# Altium footprint library ZED-F9P.PcbLib: 1 footprints
Each footprint in its own frame and in the unit in brackets; x right, y up, seen from the top. Pads: shape width x height; smd on the part's side, far side on the other; paste and mask are expansions set on the pad; w line width, h text height; cw(c..) or ccw(c..) is an arc to the next point about the centre after c.
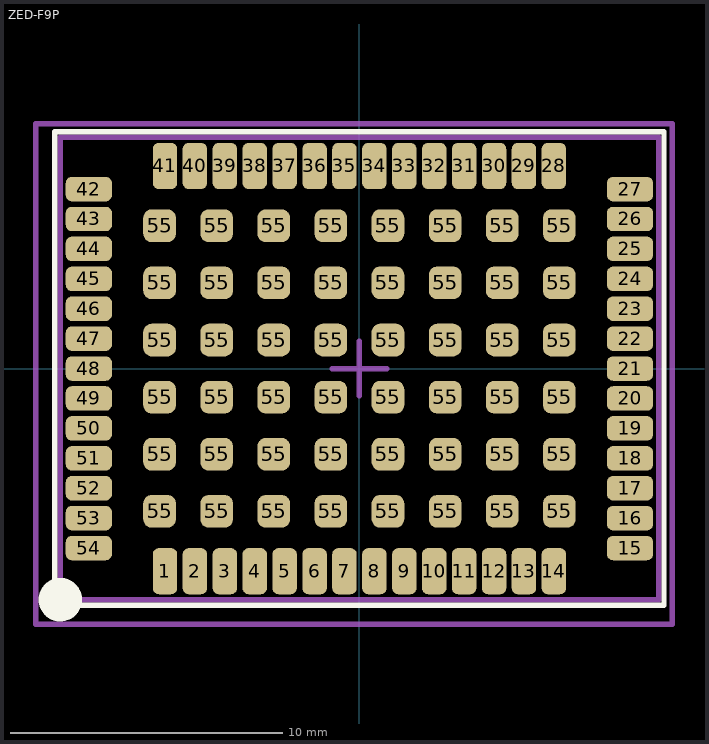
[diagram p0: the footprint, top view; thin cyan lines are the x and y axes]

## ZED-F9P [mm]
pads (102):
  rrect50% 0.9x1.7 smd mask+0: 1(-7.15,-7.45) 2(-6.05,-7.45) 3(-4.95,-7.45) 4(-3.85,-7.45) 5(-2.75,-7.45) 6(-1.65,-7.45) 7(-0.55,-7.45) 8(0.55,-7.45) 9(1.65,-7.45) 10(2.75,-7.45) 11(3.85,-7.45) 12(4.95,-7.45) 13(6.05,-7.45) 14(7.15,-7.45) 28(7.15,7.45) 29(6.05,7.45) 30(4.95,7.45) 31(3.85,7.45) 32(2.75,7.45) 33(1.65,7.45) 34(0.55,7.45) 35(-0.55,7.45) 36(-1.65,7.45) 37(-2.75,7.45) 38(-3.85,7.45) 39(-4.95,7.45) 40(-6.05,7.45) 41(-7.15,7.45)
  rrect50% 1.7x0.9 smd mask+0: 15(9.95,-6.6) 16(9.95,-5.5) 17(9.95,-4.4) 18(9.95,-3.3) 19(9.95,-2.2) 20(9.95,-1.1) 21(9.95,0) 22(9.95,1.1) 23(9.95,2.2) 24(9.95,3.3) 25(9.95,4.4) 26(9.95,5.5) 27(9.95,6.6) 42(-9.95,6.6) 43(-9.95,5.5) 44(-9.95,4.4) 45(-9.95,3.3) 46(-9.95,2.2) 47(-9.95,1.1) 48(-9.95,0) 49(-9.95,-1.1) 50(-9.95,-2.2) 51(-9.95,-3.3) 52(-9.95,-4.4) 53(-9.95,-5.5) 54(-9.95,-6.6)
  rrect50% 1.2x1.2 smd mask+0.05: 55(-7.35,-5.25) 55(-7.35,-3.15) 55(-7.35,-1.05) 55(-7.35,1.05) 55(-7.35,3.15) 55(-7.35,5.25) 55(-5.25,-5.25) 55(-5.25,-3.15) 55(-5.25,-1.05) 55(-5.25,1.05) 55(-5.25,3.15) 55(-5.25,5.25) 55(-3.15,-5.25) 55(-3.15,-3.15) 55(-3.15,-1.05) 55(-3.15,1.05) 55(-3.15,3.15) 55(-3.15,5.25) 55(-1.05,-5.25) 55(-1.05,-3.15) 55(-1.05,-1.05) 55(-1.05,1.05) 55(-1.05,3.15) 55(-1.05,5.25) 55(1.05,-5.25) 55(1.05,-3.15) 55(1.05,-1.05) 55(1.05,1.05) 55(1.05,3.15) 55(1.05,5.25) 55(3.15,-5.25) 55(3.15,-3.15) 55(3.15,-1.05) 55(3.15,1.05) 55(3.15,3.15) 55(3.15,5.25) 55(5.25,-5.25) 55(5.25,-3.15) 55(5.25,-1.05) 55(5.25,1.05) 55(5.25,3.15) 55(5.25,5.25) 55(7.35,-5.25) 55(7.35,-3.15) 55(7.35,-1.05) 55(7.35,1.05) 55(7.35,3.15) 55(7.35,5.25)
Top Overlay:
  circle w0.8: c-11,-8.5 r0.4
  lines w0.2: -11.2,-8.7 -11.2,8.7 11.2,8.7 11.2,-8.7 -11.2,-8.7
Top Assembly:
  lines w0.2: -1,0 1,0 ; 0,-1 0,1 ; -11,-8.5 -11,8.5 11,8.5 11,-8.5 -11,-8.5
Top Courtyard:
  lines w0.2: -11.9,-9.4 -11.9,9 11.5,9 11.5,-9.4 -11.9,-9.4
3D body "ZED-F9P-00B-02--3DModel-STEP-56544.STEP": height 2.6, standoff 0, extent -11,-8.5 11,8.5